# Altium schematic symbol library LVDS芯片.SchLib: 1 symbol
Pins are listed as number, name and electrical type; pins without a type are passive.

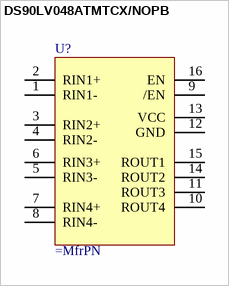
[diagram p0: symbol DS90LV048ATMTCX/NOPB]

## DS90LV048ATMTCX/NOPB
designator U?
footprint TSSOP-16
pins: 1 RIN1-, 2 RIN1+, 3 RIN2+, 4 RIN2-, 5 RIN3-, 6 RIN3+, 7 RIN4+, 8 RIN4-, 9 /EN, 10 ROUT4, 11 ROUT3, 12 GND, 13 VCC, 14 ROUT2, 15 ROUT1, 16 EN